# EAGLE library part CY62167EV18 (library ga144)
CY62167EV18
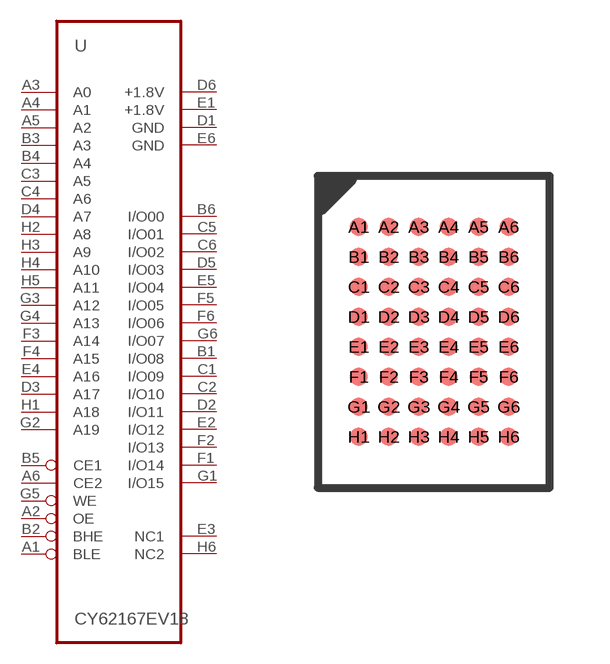
[diagram p1: symbol with the pads of VFBGA48; footprint VFBGA48]

Designator prefix -

## CY62167EV18  [VFBGA48]
A1  BLE  pas
A2  OE  in
A3  A0  in
A4  A1  in
A5  A2  in
A6  CE2  in
B1  I/O08
B2  BHE  pas
B3  A3  in
B4  A4  in
B5  CE1  in
B6  I/O00
C1  I/O09
C2  I/O10
C3  A5  in
C4  A6  in
C5  I/O01
C6  I/O02
D1  GND  pwr
D2  I/O11
D3  A17  in
D4  A7  in
D5  I/O03
D6  +1.8V  pwr
E1  +1.8V  pwr
E2  I/O12
E3  NC1
E4  A16  in
E5  I/O04
E6  GND  pwr
F1  I/O14
F2  I/O13
F3  A14  in
F4  A15  in
F5  I/O05
F6  I/O06
G1  I/O15
G2  A19  in
G3  A12  in
G4  A13  in
G5  WE  in
G6  I/O07
H1  A18  in
H2  A8  in
H3  A9  in
H4  A10  in
H5  A11  in
H6  NC2

## Footprint VFBGA48 (pad centres in mm)
48-ball VFBGA (6 x 8 x 1 mm) (51-85150) Source: Cypress CYP05780611.pdf
smd 0.45 x 0.45: A1 -1.875,2.625; A2 -1.125,2.625; A3 -0.375,2.625; A4 0.375,2.625; A5 1.125,2.625; A6 1.875,2.625; B1 -1.875,1.875; B2 -1.125,1.875; B3 -0.375,1.875; B4 0.375,1.875; B5 1.125,1.875; B6 1.875,1.875; C1 -1.875,1.125; C2 -1.125,1.125; C3 -0.375,1.125; C4 0.375,1.125; C5 1.125,1.125; C6 1.875,1.125; D1 -1.875,0.375; D2 -1.125,0.375; D3 -0.375,0.375; D4 0.375,0.375; D5 1.125,0.375; D6 1.875,0.375; E1 -1.875,-0.375; E2 -1.125,-0.375; E3 -0.375,-0.375; E4 0.375,-0.375; E5 1.125,-0.375; E6 1.875,-0.375; F1 -1.875,-1.125; F2 -1.125,-1.125; F3 -0.375,-1.125; F4 0.375,-1.125; F5 1.125,-1.125; F6 1.875,-1.125; G1 -1.875,-1.875; G2 -1.125,-1.875; G3 -0.375,-1.875; G4 0.375,-1.875; G5 1.125,-1.875; G6 1.875,-1.875; H1 -1.875,-2.625; H2 -1.125,-2.625; H3 -0.375,-2.625; H4 0.375,-2.625; H5 1.125,-2.625; H6 1.875,-2.625